# EAGLE library part G2R2 (library relay)
RELAY 2 x switch, Omron
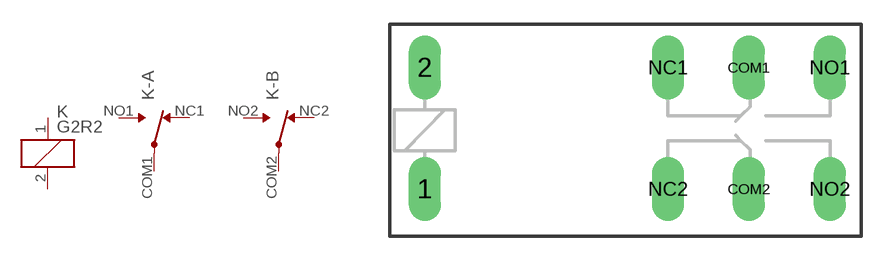
[diagram p19: symbol with the pads of G2R2; footprint G2R2]

Designator prefix K; gates C=K -A=U -B=U

## G2R2  [G2R2]
1  C:1  pas
2  C:2  pas
COM1  -A:COM  pas
COM2  -B:COM  pas
NC1  -A:NC  pas
NC2  -B:NC  pas
NO1  -A:NO  pas
NO2  -B:NO  pas

## Footprint G2R2 (pad centres in mm)
RELAY 2 x switch, Omron
drill 1.321 long: 1 -2.54,-3.683; 2 -2.54,3.81; COM1 17.45,3.81; COM2 17.45,-3.683; NC1 12.471,3.81; NC2 12.471,-3.683; NO1 22.454,3.81; NO2 22.454,-3.683